# Altium footprint library LED_footprint.PcbLib: 11 footprints
Each footprint in its own frame and in the unit in brackets; x right, y up, seen from the top. Pads: shape width x height; smd on the part's side, far side on the other; paste and mask are expansions set on the pad; w line width, h text height; cw(c..) or ccw(c..) is an arc to the next point about the centre after c.
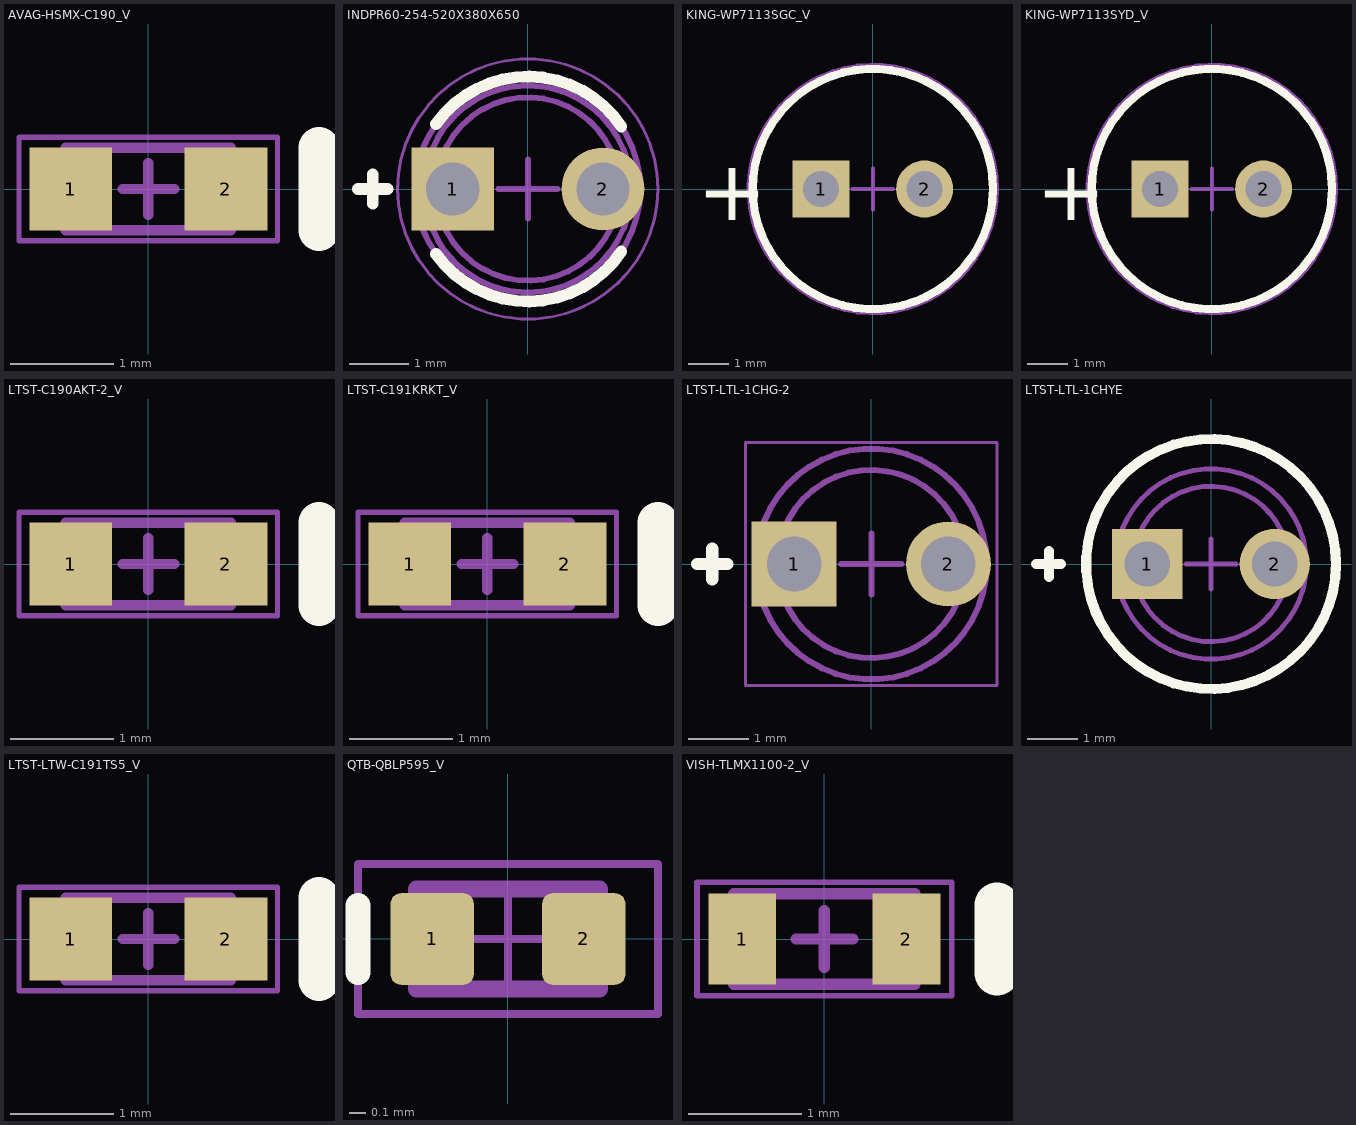
[diagram p0: the footprints below, top view; thin cyan lines are the x and y axes]

## AVAG-HSMX-C190_V [mm] "SMD, 2-Leads, Body 1.6x0.8mm, Height 0.9mm"
height 0.9
pads (2):
  rect 0.8x0.8 smd: 1(-0.75,0) 2(0.75,0)
Top Overlay:
  lines w0.4: 1.65,-0.4 1.65,0.4
Mechanical 13:
  lines w0.1: -0.8,-0.4 -0.8,0.4 0.8,0.4 0.8,-0.4 -0.8,-0.4
Mechanical 15:
  lines w0.05: -1.25,-0.5 1.25,-0.5 1.25,0.5 -1.25,0.5 -1.25,-0.5
  lines w0.1: -0.25,0 0.25,0 ; 0,-0.25 0,0.25
3D body: height 0.9, standoff 0.4, extent -0.55,-0.4 0.55,0.4
3D body: height 0.4, standoff 0, extent -0.8,-0.4 0.8,0.4

## INDPR60-254-520X380X650 [mm] "THD, 2-Leads, Dia 3.8mm, Pitch 2.54mm"
height 6.5
pads (2):
  rect 1.4x1.4 hole 0.9: 1(-1.27,0)
  round 1.4 hole 0.9: 2(1.27,0)
Top Overlay:
  lines w0.2: -2.87,0 -2.37,0 ; -2.62,-0.25 -2.62,0.25 ; -1.549,-1.1 ccw(c0,0) 1.58,-1.056 ; -1.549,1.1 cw(c0,0) 1.58,1.056
Mechanical 13:
  circle w0.1: c0,0 r1.9
  circle w0.1: c0,0 r1.55
  circle w0.1: c0,0 r1.75
Mechanical 15:
  circle w0.05: c0,0 r2.2
  lines w0.1: -0.5,0 0.5,0 ; 0,-0.5 0,0.5
3D body: height 1, standoff -24, extent -1.495,-0.2 -1.045,0.2
3D body: height 1, standoff -23, extent 1.045,-0.2 1.495,0.2
3D body: height 6.5, standoff 3.4, extent -1.548,-1.55 1.55,1.55
3D body: height 1.7, standoff 1, extent -1.899,-1.899 1.899,1.899
3D body: height 4.95, standoff 1, extent -1.549,-1.549 1.549,1.549
3D body: height 2.1, standoff 1, extent -1.75,-1.75 1.749,1.749

## KING-WP7113SGC_V [mm] "THD, 2-Leads, Dia 5.9mm, Body Length 8.6mm"
height 15.5
pads (2):
  rect 1.4x1.4 hole 0.889: 1(-1.27,0)
  round 1.4 hole 0.889: 2(1.27,0)
Top Overlay:
  circle w0.2: c0,0 r2.95
  text "+" at -4.318,-0.762 h1.5
Mechanical 13:
  circle w0.1: c0,0 r2.95
Mechanical 15:
  circle w0.1: c0,0 r3.05
  lines w0.1: -0.5,0 0.5,0 ; 0,-0.5 0,0.5
3D body "WP7113.STEP": height 15.5, standoff -20.1, extent -2.95,-2.95 2.5,2.95

## KING-WP7113SYD_V [mm] "THD, 2-Leads, Dia 5.9mm, Body Length 8.6mm"
height 15.5
pads (2):
  rect 1.4x1.4 hole 0.889: 1(-1.27,0)
  round 1.4 hole 0.889: 2(1.27,0)
Top Overlay:
  circle w0.2: c0,0 r2.95
  text "+" at -4.318,-0.762 h1.5
Mechanical 13:
  circle w0.1: c0,0 r2.95
Mechanical 15:
  circle w0.1: c0,0 r3.05
  lines w0.1: -0.5,0 0.5,0 ; 0,-0.5 0,0.5
3D body "WP7113.STEP": height 15.5, standoff -20.1, extent -2.95,-2.95 2.5,2.95

## LTST-C190AKT-2_V [mm] "SMD, 2-Leads, Body 1.6x0.8mm"
height 0.8
pads (2):
  rect 0.8x0.8 smd: 1(-0.75,0) 2(0.75,0)
Top Overlay:
  lines w0.4: 1.65,-0.4 1.65,0.4
Mechanical 13:
  lines w0.1: -0.55,-0.4 -0.55,0.4 ; 0.55,-0.4 0.55,0.4 ; -0.8,-0.4 -0.8,0.4 0.8,0.4 0.8,-0.4 -0.8,-0.4
Mechanical 15:
  lines w0.05: -1.25,-0.5 1.25,-0.5 1.25,0.5 -1.25,0.5 -1.25,-0.5
  lines w0.1: -0.25,0 0.25,0 ; 0,-0.25 0,0.25
3D body: height 0.8, standoff 0.28, extent -0.55,-0.4 0.55,0.4
3D body: height 0.28, standoff 0, extent -0.8,-0.4 0.8,0.4

## LTST-C191KRKT_V [mm] "SMD, 2-Leads, Body 1.6x0.8mm"
height 0.9
pads (2):
  rect 0.8x0.8 smd: 1(-0.75,0) 2(0.75,0)
Top Overlay:
  lines w0.4: 1.65,-0.4 1.65,0.4
Mechanical 13:
  lines w0.1: -0.55,-0.4 -0.55,0.4 ; 0.55,-0.4 0.55,0.4 ; -0.8,-0.4 -0.8,0.4 0.8,0.4 0.8,-0.4 -0.8,-0.4
Mechanical 15:
  lines w0.05: -1.25,-0.5 1.25,-0.5 1.25,0.5 -1.25,0.5 -1.25,-0.5
  lines w0.1: -0.25,0 0.25,0 ; 0,-0.25 0,0.25
3D body: height 0.9, standoff 0.38, extent -0.55,-0.4 0.55,0.4
3D body: height 0.38, standoff 0, extent -0.8,-0.4 0.8,0.4

## LTST-LTL-1CHG-2 [mm] "TH, 2-Leads, Dia 3.8mm"
height 6.5
pads (2):
  rect 1.4x1.4 hole 0.9: 1(-1.27,0)
  round 1.4 hole 0.9: 2(1.27,0)
Top Overlay:
  lines w0.2: -2.87,0 -2.37,0 ; -2.62,-0.25 -2.62,0.25
Mechanical 13:
  circle w0.1: c0,0 r1.55
  circle w0.1: c0,0 r1.9
Mechanical 15:
  lines w0.05: -2.07,-1.999 2.07,-1.999 2.07,1.999 -2.07,1.999 -2.07,-1.999
  lines w0.1: -0.5,0 0.5,0 ; 0,-0.5 0,0.5
3D body: height 1, standoff -24, extent -1.495,-0.2 -1.045,0.2
3D body: height 1, standoff -23, extent 1.045,-0.2 1.495,0.2
3D body: height 6.5, standoff 3.4, extent -1.538,-1.547 1.55,1.547
3D body: height 4.95, standoff 1, extent -1.549,-1.549 1.55,1.55
3D body: height 1.7, standoff 1, extent -1.899,-1.899 1.9,1.9

## LTST-LTL-1CHYE [mm] "THD, 2-Leads, Dia 3.8mm, Pitch 2.54mm"
height 6.5
pads (2):
  rect 1.4x1.4 hole 0.9: 1(-1.27,0)
  round 1.4 hole 0.9: 2(1.27,0)
Top Overlay:
  circle w0.2: c0,0 r2.491
  lines w0.2: -3.489,0 -2.991,0 ; -3.23,-0.254 -3.23,0.254
Mechanical 13:
  circle w0.1: c0,0 r1.55
  circle w0.1: c0,0 r1.9
Mechanical 15:
  lines w0.1: -0.5,0 0.5,0 ; 0,-0.5 0,0.5
3D body: height 2.2, standoff 0, extent -1.9,-1.899 1.9,1.9
3D body: height 4.95, standoff 2.2, extent -1.55,-1.55 1.55,1.55
3D body: height 6.5, standoff 3.4, extent -1.548,-1.549 1.55,1.55
3D body: height 0, standoff -25, extent -1.47,-0.225 -1.07,0.225
3D body: height 0, standoff -24, extent 1.07,-0.225 1.47,0.225

## LTST-LTW-C191TS5_V [mm] "SMD, 2-Leads, Body 1.6x0.8mm"
height 0.65
pads (2):
  rect 0.8x0.8 smd: 1(-0.75,0) 2(0.75,0)
Top Overlay:
  lines w0.4: 1.65,-0.4 1.65,0.4
Mechanical 13:
  lines w0.1: -0.55,-0.4 -0.55,0.4 ; 0.55,-0.4 0.55,0.4 ; -0.8,-0.4 -0.8,0.4 0.8,0.4 0.8,-0.4 -0.8,-0.4
Mechanical 15:
  lines w0.05: -1.25,-0.5 1.25,-0.5 1.25,0.5 -1.25,0.5 -1.25,-0.5
  lines w0.1: -0.25,0 0.25,0 ; 0,-0.25 0,0.25
3D body: height 0.65, standoff 0.28, extent -0.55,-0.4 0.55,0.4
3D body: height 0.28, standoff 0, extent -0.8,-0.4 0.8,0.4

## QTB-QBLP595_V [mm] "SMD, 2-Leads, Body 1x0.5mm"
height 0.5
pads (2):
  rrect25% 0.5x0.55 smd: 1(-0.455,0) 2(0.455,0)
Top Overlay:
  lines w0.15: -0.9,-0.2 -0.9,0.2
Mechanical 13:
  lines w0.1: -0.55,-0.3 -0.55,0.3 0.55,0.3 0.55,-0.3 -0.55,-0.3
Mechanical 15:
  lines w0.05: -0.275,0 0.275,0 ; 0,-0.275 0,0.275 ; -0.9,-0.45 0.9,-0.45 0.9,0.45 -0.9,0.45 -0.9,-0.45
Mechanical 19:
  text ".Designator" at -1.27,-0.127 h0.6
3D body: height 0.5, standoff 0, extent -0.5,-0.25 0.5,0.25

## VISH-TLMX1100-2_V [mm] "SMD, 2-Leads, Body 1.6x0.8mm"
height 0.65
pads (2):
  rect 0.6x0.8 smd: 1(-0.725,0) 2(0.725,0)
Top Overlay:
  lines w0.4: 1.525,-0.3 1.525,0.3
Mechanical 13:
  lines w0.1: -0.8,-0.4 0.8,-0.4 0.8,0.4 -0.8,0.4 -0.8,-0.4
Mechanical 15:
  lines w0.05: -1.125,-0.5 1.125,-0.5 1.125,0.5 -1.125,0.5 -1.125,-0.5
  lines w0.1: -0.25,0 0.25,0 ; 0,-0.25 0,0.25
3D body: height 0.65, standoff 0, extent -0.8,-0.4 0.8,0.4